# EAGLE library part 24XX512 (library microchip)
CMOS Serial EEPROM 24AA512/24LC512/24FC512
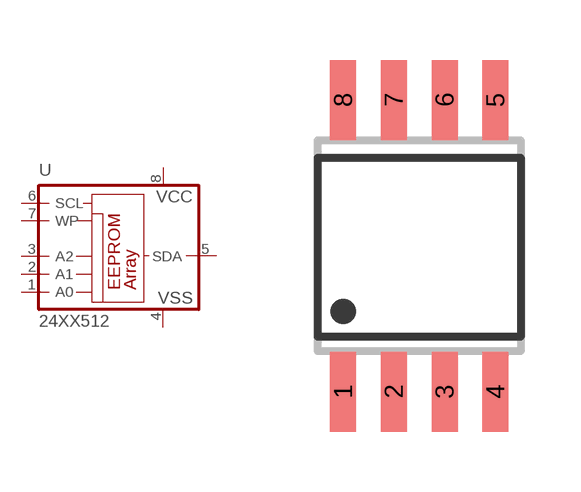
[diagram p131: symbol with the pads of SO-08-SOIJ; footprint SO-08-SOIJ]

Designator prefix U

## 24XX512SM  [SO-08-SOIJ]
1  A0  in
2  A1  in
3  A2  in
4  VSS  pwr
5  SDA
6  SCL  in
7  WP  in
8  VCC  pwr

## Footprint SO-08-SOIJ (pad centres in mm)
SO-08 SOIJ 5.28 mm body outline
smd 0.65 x 2: 1 -1.905,-3.65; 2 -0.635,-3.65; 3 0.635,-3.65; 4 1.905,-3.65; 5 1.905,3.65; 6 0.635,3.65; 7 -0.635,3.65; 8 -1.905,3.65